# Altium schematic symbol library 52746-1671.SchLib: 1 symbol
Pins are listed as number, name and electrical type; pins without a type are passive.

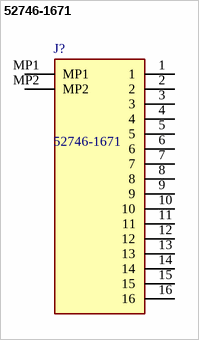
[diagram p0: symbol 52746-1671]

## 52746-1671
designator J?
Easy-On FFC/FPC Connector, 0.50mm Pitch, Slider Series, Right-Angle, Bottom Contact, 2.00mm Height,  Circuits, Gold Plating; Manufacturer_Name: Molex; Geometry.Height: 2.2mm; Mouser Part Number: 538-52746-1671; Mouser Price/Stock: https://www.mouser.co.uk/ProductDetail/Molex/52746-1671?qs=nDwhpid8gJYEmQ9M1KrTnw%3D%3D; Manufacturer_Part_Number: 52746-1671; Datasheet Link: https://www.molex.com/pdm_docs/sd/527460671_sd.pdf
footprint 527461671
pins: 1, 2, 3, 4, 5, 6, 7, 8, 9, 10, 11, 12, 13, 14, 15, 16, MP1, MP2